# Altium footprint library CONN_SD-39511-001_03P_MOL.PcbLib: 1 footprints
Each footprint in its own frame and in the unit in brackets; x right, y up, seen from the top. Pads: shape width x height; smd on the part's side, far side on the other; paste and mask are expansions set on the pad; w line width, h text height; cw(c..) or ccw(c..) is an arc to the next point about the centre after c.
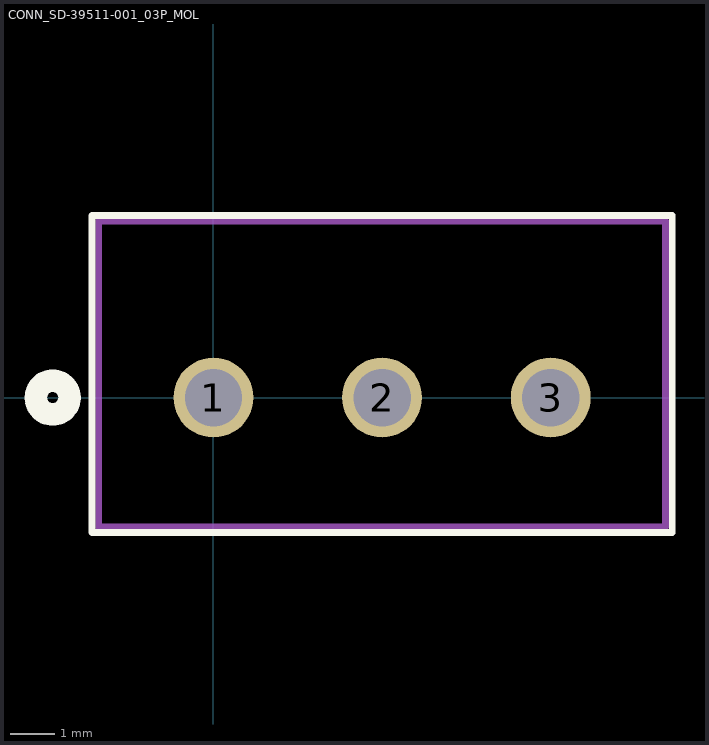
[diagram p0: the footprint, top view; thin cyan lines are the x and y axes]

## CONN_SD-39511-001_03P_MOL [mil]
pads (3):
  round 71 hole 51 mask+4.02: 1(0,0) 2(150,0) 3(300,0)
Top Overlay:
  lines w6: -108,-120 -108,162 408,162 408,-120 -108,-120
  lines w20: -158,0 cw(c-143,0) -128,0 cw(c-143,0) -158,0
Bottom Overlay:
  lines w20: -158,0 cw(c-143,0) -128,0 cw(c-143,0) -158,0
Assembly Top:
  lines w6: -102,-115 -102,157 402,157 402,-115 -102,-115
3D body "395111003.stp": height 360, standoff -140, extent -102.36,-115 402.36,155